# Altium footprint library TDCR1060M.PcbLib: 1 footprints
Each footprint in its own frame and in the unit in brackets; x right, y up, seen from the top. Pads: shape width x height; smd on the part's side, far side on the other; paste and mask are expansions set on the pad; w line width, h text height; cw(c..) or ccw(c..) is an arc to the next point about the centre after c.
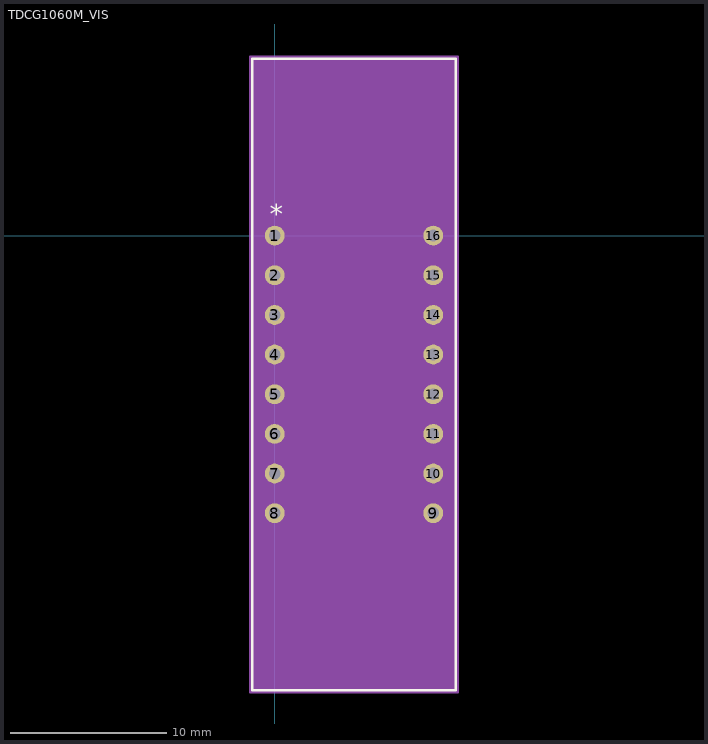
[diagram p0: the footprint, top view; thin cyan lines are the x and y axes]

## TDCG1060M_VIS [mil]
pads (16):
  round 50 / inner round 60 / far side round 50 hole 30 paste-25 mask+0: 1(0,0) 2(0,-100) 3(0,-200) 4(0,-300) 5(0,-400) 6(0,-500) 7(0,-600) 8(0,-700) 9(400,-700) 10(400,-600) 11(400,-500) 12(400,-400) 13(400,-300) 14(400,-200) 15(400,-100) 16(400,0)
Top Overlay:
  lines w6: -57,-1146.5 457,-1146.5 457,446.5 -57,446.5 -57,-1146.5
  text "*" at -12.5,30 h50
Mechanical 13:
  lines w0: 188,441.5 ccw(c200,441.5) 212,441.5
  lines w1: -52,-1141.5 452,-1141.5 452,441.5 -52,441.5 -52,-1141.5 ; -52,-715 -52,-685 -15,-685 -15,-715 -52,-715 ; -52,-615 -52,-585 -15,-585 -15,-615 -52,-615 ; -52,-515 -52,-485 -15,-485 -15,-515 -52,-515 ; -52,-415 -52,-385 -15,-385 -15,-415 -52,-415 ; -52,-315 -52,-285 -15,-285 -15,-315 -52,-315 ; -52,-215 -52,-185 -15,-185 -15,-215 -52,-215 ; -52,-115 -52,-85 -15,-85 -15,-115 -52,-115 ; -52,-15 -52,15 -15,15 -15,-15 -52,-15 ; 415,-715 452,-715 452,-685 415,-685 415,-715 ; 415,-615 452,-615 452,-585 415,-585 415,-615 ; 415,-515 452,-515 452,-485 415,-485 415,-515 ; 415,-415 452,-415 452,-385 415,-385 415,-415 ; 415,-315 452,-315 452,-285 415,-285 415,-315 ; 415,-215 452,-215 452,-185 415,-185 415,-215 ; 415,-115 452,-115 452,-85 415,-85 415,-115 ; 415,-15 452,-15 452,15 415,15 415,-15
  text "*" at -54.5,-25 h50
Mechanical 15:
  region: 462,-735 462,35 462,451.5 -62,451.5 -62,35 -62,-735 -62,-1151.5 462,-1151.5
  lines w6: -62,-735 -62,35 ; -62,-735 -62,-735 ; -62,-735 -62,-1151.5 462,-1151.5 462,-735 ; -62,35 -62,35 ; -62,35 -62,451.5 462,451.5 462,35 ; 462,-735 462,35 ; 462,-735 462,-735 ; 462,35 462,35
3D body "TDCG1060M_VIS.step": height 281.1, standoff -100, extent -5,-1141.5 409.61,441.5